# Altium schematic symbol library Diodes.SchLib: 4 symbols
Pins are listed as number, name and electrical type; pins without a type are passive.

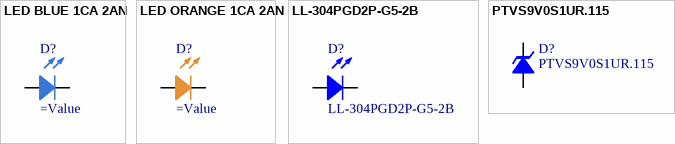
[diagram p0: symbols LED BLUE 1CA 2AN to PTVS9V0S1UR.115]

## LED BLUE 1CA 2AN
designator D?
pins: 1 Cathode, 2 Anode

## LED ORANGE 1CA 2AN
designator D?
pins: 1 Cathode, 2 Anode

## LL-304PGD2P-G5-2B
designator D?
LED; 3mm; green; 3800÷6500mcd; 60°; Front: convex; Part Number: D0000050; Manufacturer: LUCKYLIGHT; Current: 25mA; Part Type: LED\Green; Value: LL-304PGD2P-G5-2B; Mounting: Surface Mount; Manufacturer Part Number: LL-304PGD2P-G5-2B; Supplier 1: TME; Supplier Part Number 1: LL-304PGD2P-G5-2B; ComponentLink1Description: Datasheet; ComponentLink1URL: https://www.tme.eu/Document/801a925750e079645b9ed43388877208/LL-304PGD2P-G5-2B.pdf; Date: 2018-12-22
footprint LL-304PGD2P-G5-2B_ANGLE (LED, Green, Body Dia. 3.43 mm, Pin spacing 2.54mm)
pins: 1 Cathode, 2 Anode

## PTVS9V0S1UR.115
designator D?
Diode: TVS; 400W; 10.55V; 26A; unidirectional; SOD123W; max.150°C; Manufacturer: NEXPERIA; Reverse Voltage: 9V; Vcc Clamping: 15.4V; Part Type: TVS\Unidirectional; Value: PTVS9V0S1UR.115; Power: 400W; Package: SOD-123; Mounting: SMD; Manufacturer Part Number: PTVS9V0S1UR.115; Supplier 1: TME; Supplier Part Number 1: PTVS9V0S1UR.115; ComponentLink1Description: Datasheet; ComponentLink1URL: https://www.tme.eu/Document/924f0eb92edf4e44e751d499c5e1291d/PTVSXS1UR_SER.pdf; Date: 2013-02-26
footprint SOD123W
pins: 1 ANODE, 2 CATHODE